# Altium footprint library PcbLib1.PcbLib: 21 footprints (part 2 of 2)
Each footprint in its own frame and in the unit in brackets; x right, y up, seen from the top. Pads: shape width x height; smd on the part's side, far side on the other; paste and mask are expansions set on the pad; w line width, h text height; cw(c..) or ccw(c..) is an arc to the next point about the centre after c.
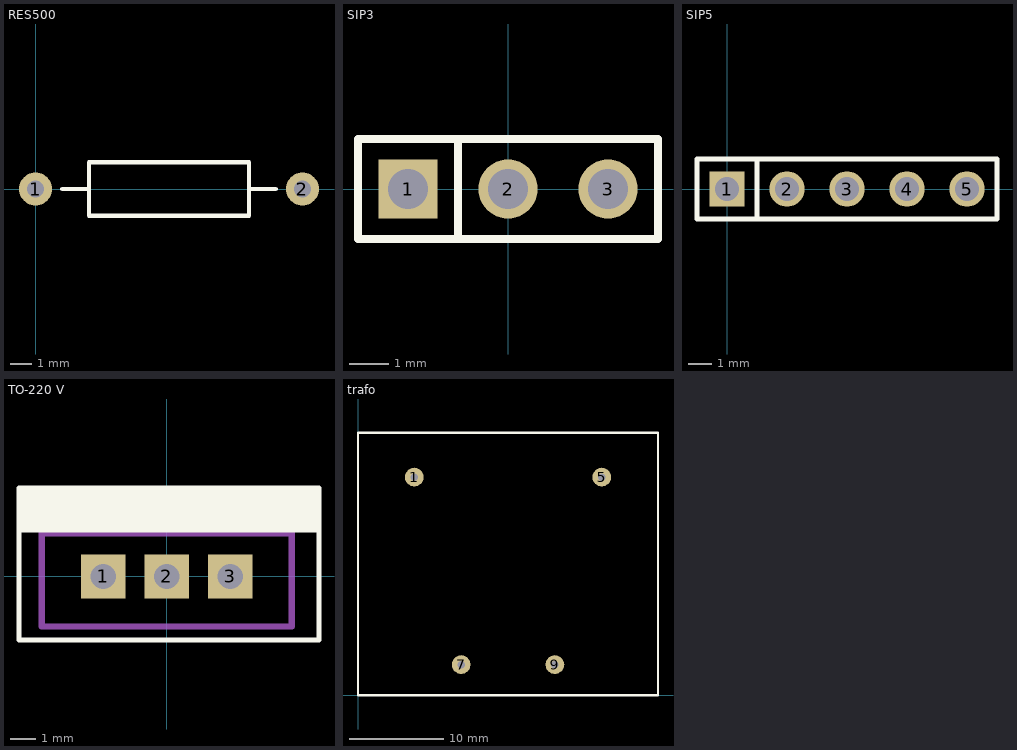
[diagram p1: the footprints below, top view; thin cyan lines are the x and y axes]

## RES500 [mil]
pads (2):
  round 62 hole 32: 1(0,0) 2(500,0)
Top Overlay:
  lines w7.87: 50,0 100,0 ; 400,0 450,0 ; 100,-50 100,50 400,50 400,-50 100,-50
3D body: height 119.08, standoff -59.06, extent -5,-52.27 505,54

## SIP3 [mm]
pads (3):
  rect 1.5x1.5 hole 1.016: 1(-2.54,0)
  round 1.5 hole 1.016: 2(0,0) 3(2.54,0)
Top Overlay:
  lines w0.2: -1.27,-1.27 -1.27,1.27 ; -3.81,-1.27 3.81,-1.27 3.81,1.27 -3.81,1.27 -3.81,-1.27
3D body: height 8.38, standoff -2.54, extent -3.81,-1.295 3.81,1.245

## SIP5 [mm]
pads (5):
  rect 1.5x1.5 hole 1.016: 1(0,0)
  round 1.5 hole 1.016: 2(2.54,0) 3(5.08,0) 4(7.62,0) 5(10.16,0)
Top Overlay:
  lines w0.2: 1.27,-1.27 1.27,1.27 ; -1.27,-1.27 -1.27,1.27 11.43,1.27 11.43,-1.27 -1.27,-1.27
3D body: height 8.38, standoff -2.54, extent -1.27,-1.27 8.89,1.27
3D body: height 8.38, standoff -2.54, extent 1.27,-1.27 11.43,1.27

## TO-220 V [mil]
pads (3):
  rect 70x70 hole 40: 1(-100,0) 2(0,0) 3(100,0)
Top Overlay:
  region: -232.44,139.37 -232.44,70 240,70 240,139.37
  lines w7.87: -232.44,-100 -232.44,139.37 240,139.37 240,-100 -232.44,-100
Mechanical 1:
  lines w10: -196.85,68.11 196.85,68.11 ; -196.85,-78.74 -196.85,118.11 196.85,118.11 196.85,-78.74 -196.85,-78.74
3D body: height 708.66, standoff 433.07, extent -196.85,68.11 196.85,118.11
3D body: height 433.07, standoff 118.11, extent -196.85,-78.74 196.85,118.11
3D body: height 78.74, standoff -78.74, extent 84.25,-15.75 115.75,15.75
3D body: height 118.11, standoff 0, extent 75,-15.75 125,15.75
3D body: height 78.74, standoff -78.74, extent -15.75,-15.75 15.75,15.75
3D body: height 118.11, standoff 0, extent -25,-15.75 25,15.75
3D body: height 78.74, standoff -78.74, extent -115.75,-15.75 -84.25,15.75
3D body: height 118.11, standoff 0, extent -125,-15.75 -75,15.75

## trafo [mm]
pads (4):
  round 2 hole 0.8: 1(6.002,23.271) 5(26.002,23.271) 7(11.002,3.271) 9(21.002,3.271)
Top Overlay:
  lines w0.254: 0,0 32,0 32,28 0,28 0,0
3D body: height 36.58, standoff 0.58, extent 0.004,0 32.004,28